# Altium schematic symbol library kmilo17pet-NSC_LDO.SchLib: 2675 symbols (part 56 of 65)
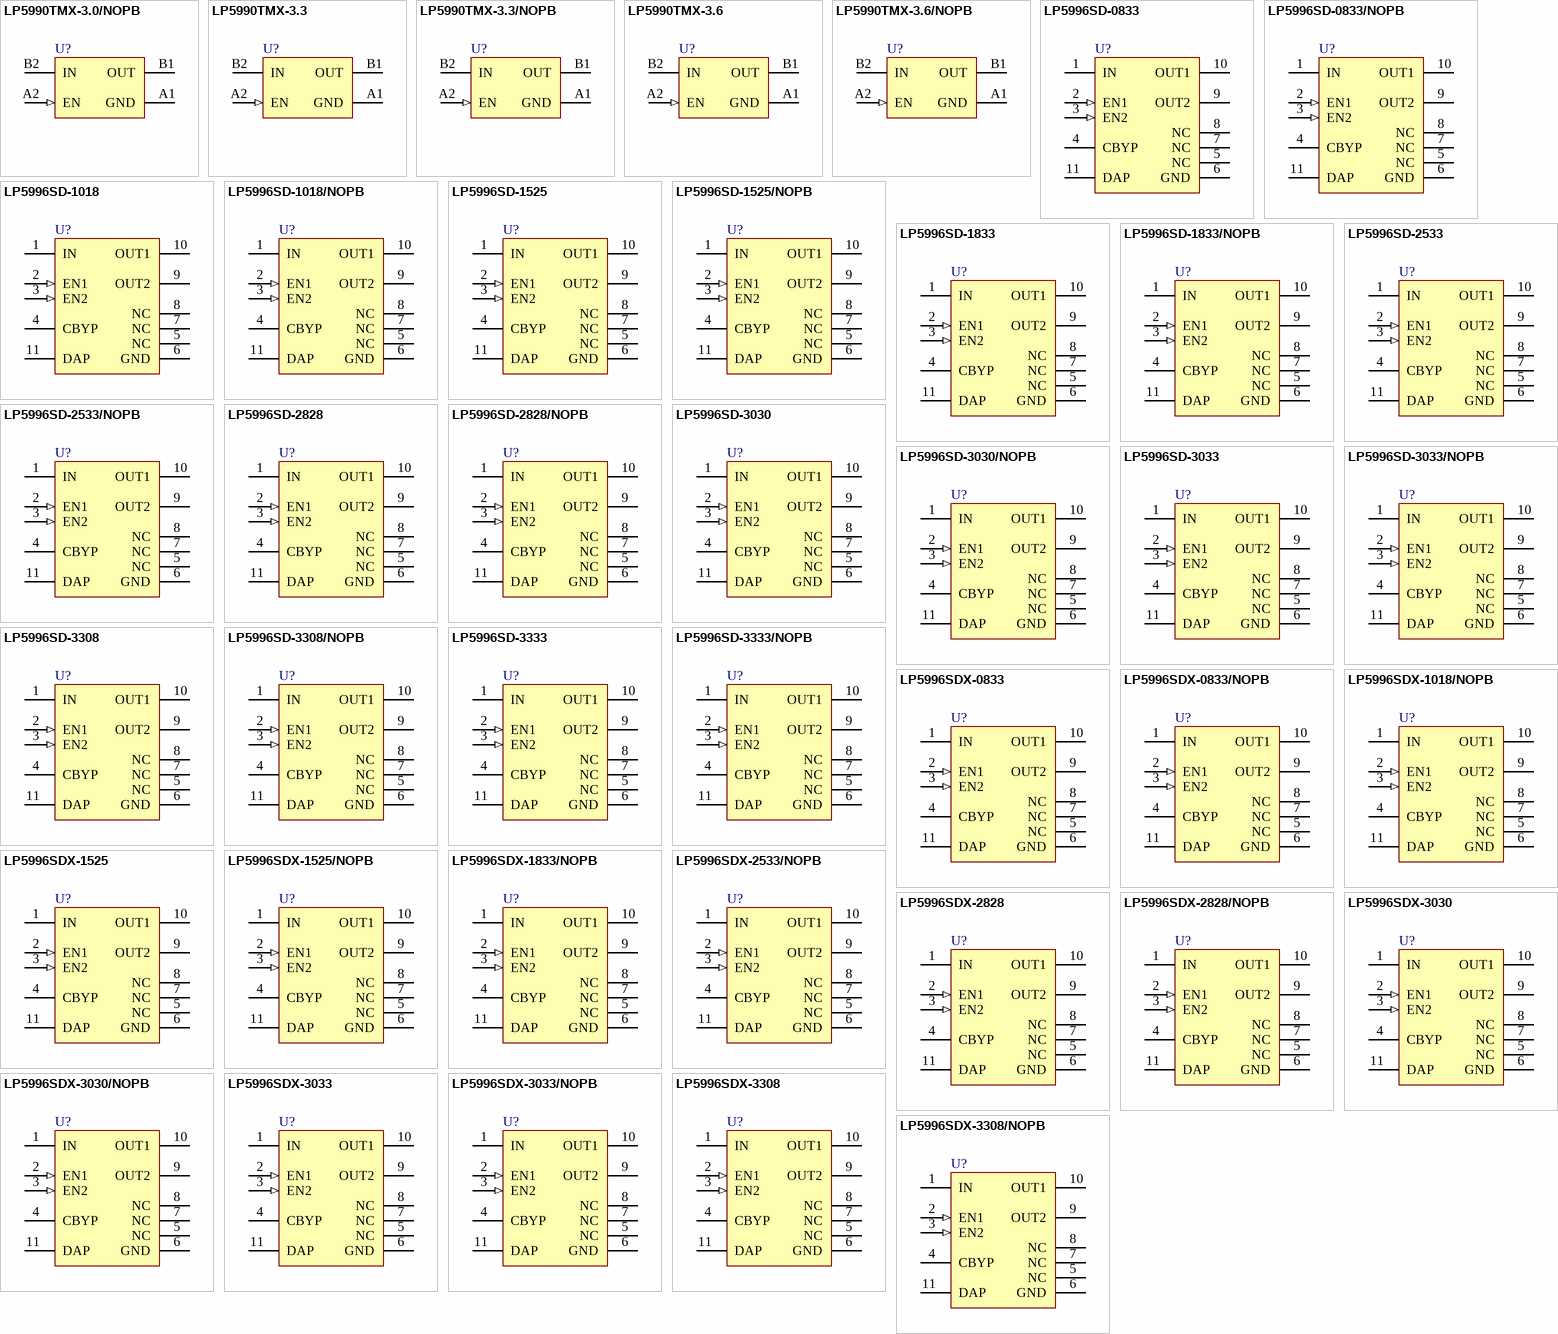
[diagram p122: symbols LP5990TMX-3.0/NOPB to LP5996SDX-3308/NOPB]

## LP5996SDX-1833/NOPB
designator U?
Dual Linear Regulator with 300mA and 150mA Outputs, 10-pin LLP, Pb-Free; PartNumber: LP5996SDX-1833/NOPB; Manufacturer: National Semiconductor; PackageTopMarking: ZXYTT*L225B; PowerWise: N; CompType: LDO IC; High-Reliability: Y; DatasheetVersion: Jan-2008; PackageVersion: revA, Oct-2003; PackageReference: SDA10A; PackageDescription: LLP, Plastic, Dual, 3 x 3 x 0.8mm Body, 10 Lead, 0.5mm Pitch, No Pullback; RoHS: Y; PinCount: 10; ComponentLink1Description: Manufacturer URL; ComponentLink1URL: http://www.national.com/; ComponentLink2Description: LP5996 Datasheet; ComponentLink2URL: http://www.national.com/ds/LP/LP5996.pdf; ComponentLink3Description: LP5996 Web Page; ComponentLink3URL: http://www.national.com/pf/LP/LP5996.html; ComponentLink4Description: SDA10A Package Page; ComponentLink4URL: http://www.national.com/packaging/folders/sda10a.html
footprint SDA10A (SON, 10-Leads, Body 3x3 mm, Pitch 0.5mm, NSC Recommended)
pins: 1 IN (power), 2 EN1 (in), 3 EN2 (in), 4 CBYP, 5 NC, 6 GND (power), 7 NC, 8 NC, 9 OUT2 (power), 10 OUT1 (power), 11 DAP (power)

## LP5996SDX-2533/NOPB
designator U?
Dual Linear Regulator with 300mA and 150mA Outputs, 10-pin LLP, Pb-Free; PartNumber: LP5996SDX-2533/NOPB; Manufacturer: National Semiconductor; PackageTopMarking: ZXYTT*L226B; PowerWise: N; CompType: LDO IC; High-Reliability: Y; DatasheetVersion: Jan-2008; PackageVersion: revA, Oct-2003; PackageReference: SDA10A; PackageDescription: LLP, Plastic, Dual, 3 x 3 x 0.8mm Body, 10 Lead, 0.5mm Pitch, No Pullback; RoHS: Y; PinCount: 10; ComponentLink1Description: Manufacturer URL; ComponentLink1URL: http://www.national.com/; ComponentLink2Description: LP5996 Datasheet; ComponentLink2URL: http://www.national.com/ds/LP/LP5996.pdf; ComponentLink3Description: LP5996 Web Page; ComponentLink3URL: http://www.national.com/pf/LP/LP5996.html; ComponentLink4Description: SDA10A Package Page; ComponentLink4URL: http://www.national.com/packaging/folders/sda10a.html
footprint SDA10A (SON, 10-Leads, Body 3x3 mm, Pitch 0.5mm, NSC Recommended)
pins: 1 IN (power), 2 EN1 (in), 3 EN2 (in), 4 CBYP, 5 NC, 6 GND (power), 7 NC, 8 NC, 9 OUT2 (power), 10 OUT1 (power), 11 DAP (power)

## LP5996SDX-2828
designator U?
Dual Linear Regulator with 300mA and 150mA Outputs, 10-pin LLP; PartNumber: LP5996SDX-2828; Manufacturer: National Semiconductor; PackageTopMarking: ZXYTT*L180B; PowerWise: N; CompType: LDO IC; High-Reliability: Y; DatasheetVersion: Jan-2008; PackageVersion: revA, Oct-2003; PackageReference: SDA10A; PackageDescription: LLP, Plastic, Dual, 3 x 3 x 0.8mm Body, 10 Lead, 0.5mm Pitch, No Pullback; RoHS: N; PinCount: 10; ComponentLink1Description: Manufacturer URL; ComponentLink1URL: http://www.national.com/; ComponentLink2Description: LP5996 Datasheet; ComponentLink2URL: http://www.national.com/ds/LP/LP5996.pdf; ComponentLink3Description: LP5996 Web Page; ComponentLink3URL: http://www.national.com/pf/LP/LP5996.html; ComponentLink4Description: SDA10A Package Page; ComponentLink4URL: http://www.national.com/packaging/folders/sda10a.html
footprint SDA10A (SON, 10-Leads, Body 3x3 mm, Pitch 0.5mm, NSC Recommended)
pins: 1 IN (power), 2 EN1 (in), 3 EN2 (in), 4 CBYP, 5 NC, 6 GND (power), 7 NC, 8 NC, 9 OUT2 (power), 10 OUT1 (power), 11 DAP (power)

## LP5996SDX-2828/NOPB
designator U?
Dual Linear Regulator with 300mA and 150mA Outputs, 10-pin LLP, Pb-Free; PartNumber: LP5996SDX-2828/NOPB; Manufacturer: National Semiconductor; PackageTopMarking: ZXYTT*L180B; PowerWise: N; CompType: LDO IC; High-Reliability: Y; DatasheetVersion: Jan-2008; PackageVersion: revA, Oct-2003; PackageReference: SDA10A; PackageDescription: LLP, Plastic, Dual, 3 x 3 x 0.8mm Body, 10 Lead, 0.5mm Pitch, No Pullback; RoHS: Y; PinCount: 10; ComponentLink1Description: Manufacturer URL; ComponentLink1URL: http://www.national.com/; ComponentLink2Description: LP5996 Datasheet; ComponentLink2URL: http://www.national.com/ds/LP/LP5996.pdf; ComponentLink3Description: LP5996 Web Page; ComponentLink3URL: http://www.national.com/pf/LP/LP5996.html; ComponentLink4Description: SDA10A Package Page; ComponentLink4URL: http://www.national.com/packaging/folders/sda10a.html
footprint SDA10A (SON, 10-Leads, Body 3x3 mm, Pitch 0.5mm, NSC Recommended)
pins: 1 IN (power), 2 EN1 (in), 3 EN2 (in), 4 CBYP, 5 NC, 6 GND (power), 7 NC, 8 NC, 9 OUT2 (power), 10 OUT1 (power), 11 DAP (power)

## LP5996SDX-3030
designator U?
Dual Linear Regulator with 300mA and 150mA Outputs, 10-pin LLP; PartNumber: LP5996SDX-3030; Manufacturer: National Semiconductor; PackageTopMarking: ZXYTT*L181B; PowerWise: N; CompType: LDO IC; High-Reliability: Y; DatasheetVersion: Jan-2008; PackageVersion: revA, Oct-2003; PackageReference: SDA10A; PackageDescription: LLP, Plastic, Dual, 3 x 3 x 0.8mm Body, 10 Lead, 0.5mm Pitch, No Pullback; RoHS: N; PinCount: 10; ComponentLink1Description: Manufacturer URL; ComponentLink1URL: http://www.national.com/; ComponentLink2Description: LP5996 Datasheet; ComponentLink2URL: http://www.national.com/ds/LP/LP5996.pdf; ComponentLink3Description: LP5996 Web Page; ComponentLink3URL: http://www.national.com/pf/LP/LP5996.html; ComponentLink4Description: SDA10A Package Page; ComponentLink4URL: http://www.national.com/packaging/folders/sda10a.html
footprint SDA10A (SON, 10-Leads, Body 3x3 mm, Pitch 0.5mm, NSC Recommended)
pins: 1 IN (power), 2 EN1 (in), 3 EN2 (in), 4 CBYP, 5 NC, 6 GND (power), 7 NC, 8 NC, 9 OUT2 (power), 10 OUT1 (power), 11 DAP (power)

## LP5996SDX-3030/NOPB
designator U?
Dual Linear Regulator with 300mA and 150mA Outputs, 10-pin LLP, Pb-Free; PartNumber: LP5996SDX-3030/NOPB; Manufacturer: National Semiconductor; PackageTopMarking: ZXYTT*L181B; PowerWise: N; CompType: LDO IC; High-Reliability: Y; DatasheetVersion: Jan-2008; PackageVersion: revA, Oct-2003; PackageReference: SDA10A; PackageDescription: LLP, Plastic, Dual, 3 x 3 x 0.8mm Body, 10 Lead, 0.5mm Pitch, No Pullback; RoHS: Y; PinCount: 10; ComponentLink1Description: Manufacturer URL; ComponentLink1URL: http://www.national.com/; ComponentLink2Description: LP5996 Datasheet; ComponentLink2URL: http://www.national.com/ds/LP/LP5996.pdf; ComponentLink3Description: LP5996 Web Page; ComponentLink3URL: http://www.national.com/pf/LP/LP5996.html; ComponentLink4Description: SDA10A Package Page; ComponentLink4URL: http://www.national.com/packaging/folders/sda10a.html
footprint SDA10A (SON, 10-Leads, Body 3x3 mm, Pitch 0.5mm, NSC Recommended)
pins: 1 IN (power), 2 EN1 (in), 3 EN2 (in), 4 CBYP, 5 NC, 6 GND (power), 7 NC, 8 NC, 9 OUT2 (power), 10 OUT1 (power), 11 DAP (power)

## LP5996SDX-3033
designator U?
Dual Linear Regulator with 300mA and 150mA Outputs, 10-pin LLP; PartNumber: LP5996SDX-3033; Manufacturer: National Semiconductor; PackageTopMarking: ZXYTT*L179B; PowerWise: N; CompType: LDO IC; High-Reliability: Y; DatasheetVersion: Jan-2008; PackageVersion: revA, Oct-2003; PackageReference: SDA10A; PackageDescription: LLP, Plastic, Dual, 3 x 3 x 0.8mm Body, 10 Lead, 0.5mm Pitch, No Pullback; RoHS: N; PinCount: 10; ComponentLink1Description: Manufacturer URL; ComponentLink1URL: http://www.national.com/; ComponentLink2Description: LP5996 Datasheet; ComponentLink2URL: http://www.national.com/ds/LP/LP5996.pdf; ComponentLink3Description: LP5996 Web Page; ComponentLink3URL: http://www.national.com/pf/LP/LP5996.html; ComponentLink4Description: SDA10A Package Page; ComponentLink4URL: http://www.national.com/packaging/folders/sda10a.html
footprint SDA10A (SON, 10-Leads, Body 3x3 mm, Pitch 0.5mm, NSC Recommended)
pins: 1 IN (power), 2 EN1 (in), 3 EN2 (in), 4 CBYP, 5 NC, 6 GND (power), 7 NC, 8 NC, 9 OUT2 (power), 10 OUT1 (power), 11 DAP (power)

## LP5996SDX-3033/NOPB
designator U?
Dual Linear Regulator with 300mA and 150mA Outputs, 10-pin LLP, Pb-Free; PartNumber: LP5996SDX-3033/NOPB; Manufacturer: National Semiconductor; PackageTopMarking: ZXYTT*L179B; PowerWise: N; CompType: LDO IC; High-Reliability: Y; DatasheetVersion: Jan-2008; PackageVersion: revA, Oct-2003; PackageReference: SDA10A; PackageDescription: LLP, Plastic, Dual, 3 x 3 x 0.8mm Body, 10 Lead, 0.5mm Pitch, No Pullback; RoHS: Y; PinCount: 10; ComponentLink1Description: Manufacturer URL; ComponentLink1URL: http://www.national.com/; ComponentLink2Description: LP5996 Datasheet; ComponentLink2URL: http://www.national.com/ds/LP/LP5996.pdf; ComponentLink3Description: LP5996 Web Page; ComponentLink3URL: http://www.national.com/pf/LP/LP5996.html; ComponentLink4Description: SDA10A Package Page; ComponentLink4URL: http://www.national.com/packaging/folders/sda10a.html
footprint SDA10A (SON, 10-Leads, Body 3x3 mm, Pitch 0.5mm, NSC Recommended)
pins: 1 IN (power), 2 EN1 (in), 3 EN2 (in), 4 CBYP, 5 NC, 6 GND (power), 7 NC, 8 NC, 9 OUT2 (power), 10 OUT1 (power), 11 DAP (power)

## LP5996SDX-3308
designator U?
Dual Linear Regulator with 300mA and 150mA Outputs, 10-pin LLP; PartNumber: LP5996SDX-3308; Manufacturer: National Semiconductor; PackageTopMarking: ZXYTT*L205B; PowerWise: N; CompType: LDO IC; High-Reliability: Y; DatasheetVersion: Jan-2008; PackageVersion: revA, Oct-2003; PackageReference: SDA10A; PackageDescription: LLP, Plastic, Dual, 3 x 3 x 0.8mm Body, 10 Lead, 0.5mm Pitch, No Pullback; RoHS: N; PinCount: 10; ComponentLink1Description: Manufacturer URL; ComponentLink1URL: http://www.national.com/; ComponentLink2Description: LP5996 Datasheet; ComponentLink2URL: http://www.national.com/ds/LP/LP5996.pdf; ComponentLink3Description: LP5996 Web Page; ComponentLink3URL: http://www.national.com/pf/LP/LP5996.html; ComponentLink4Description: SDA10A Package Page; ComponentLink4URL: http://www.national.com/packaging/folders/sda10a.html
footprint SDA10A (SON, 10-Leads, Body 3x3 mm, Pitch 0.5mm, NSC Recommended)
pins: 1 IN (power), 2 EN1 (in), 3 EN2 (in), 4 CBYP, 5 NC, 6 GND (power), 7 NC, 8 NC, 9 OUT2 (power), 10 OUT1 (power), 11 DAP (power)

## LP5996SDX-3308/NOPB
designator U?
Dual Linear Regulator with 300mA and 150mA Outputs, 10-pin LLP, Pb-Free; PartNumber: LP5996SDX-3308/NOPB; Manufacturer: National Semiconductor; PackageTopMarking: ZXYTT*L205B; PowerWise: N; CompType: LDO IC; High-Reliability: Y; DatasheetVersion: Jan-2008; PackageVersion: revA, Oct-2003; PackageReference: SDA10A; PackageDescription: LLP, Plastic, Dual, 3 x 3 x 0.8mm Body, 10 Lead, 0.5mm Pitch, No Pullback; RoHS: Y; PinCount: 10; ComponentLink1Description: Manufacturer URL; ComponentLink1URL: http://www.national.com/; ComponentLink2Description: LP5996 Datasheet; ComponentLink2URL: http://www.national.com/ds/LP/LP5996.pdf; ComponentLink3Description: LP5996 Web Page; ComponentLink3URL: http://www.national.com/pf/LP/LP5996.html; ComponentLink4Description: SDA10A Package Page; ComponentLink4URL: http://www.national.com/packaging/folders/sda10a.html
footprint SDA10A (SON, 10-Leads, Body 3x3 mm, Pitch 0.5mm, NSC Recommended)
pins: 1 IN (power), 2 EN1 (in), 3 EN2 (in), 4 CBYP, 5 NC, 6 GND (power), 7 NC, 8 NC, 9 OUT2 (power), 10 OUT1 (power), 11 DAP (power)

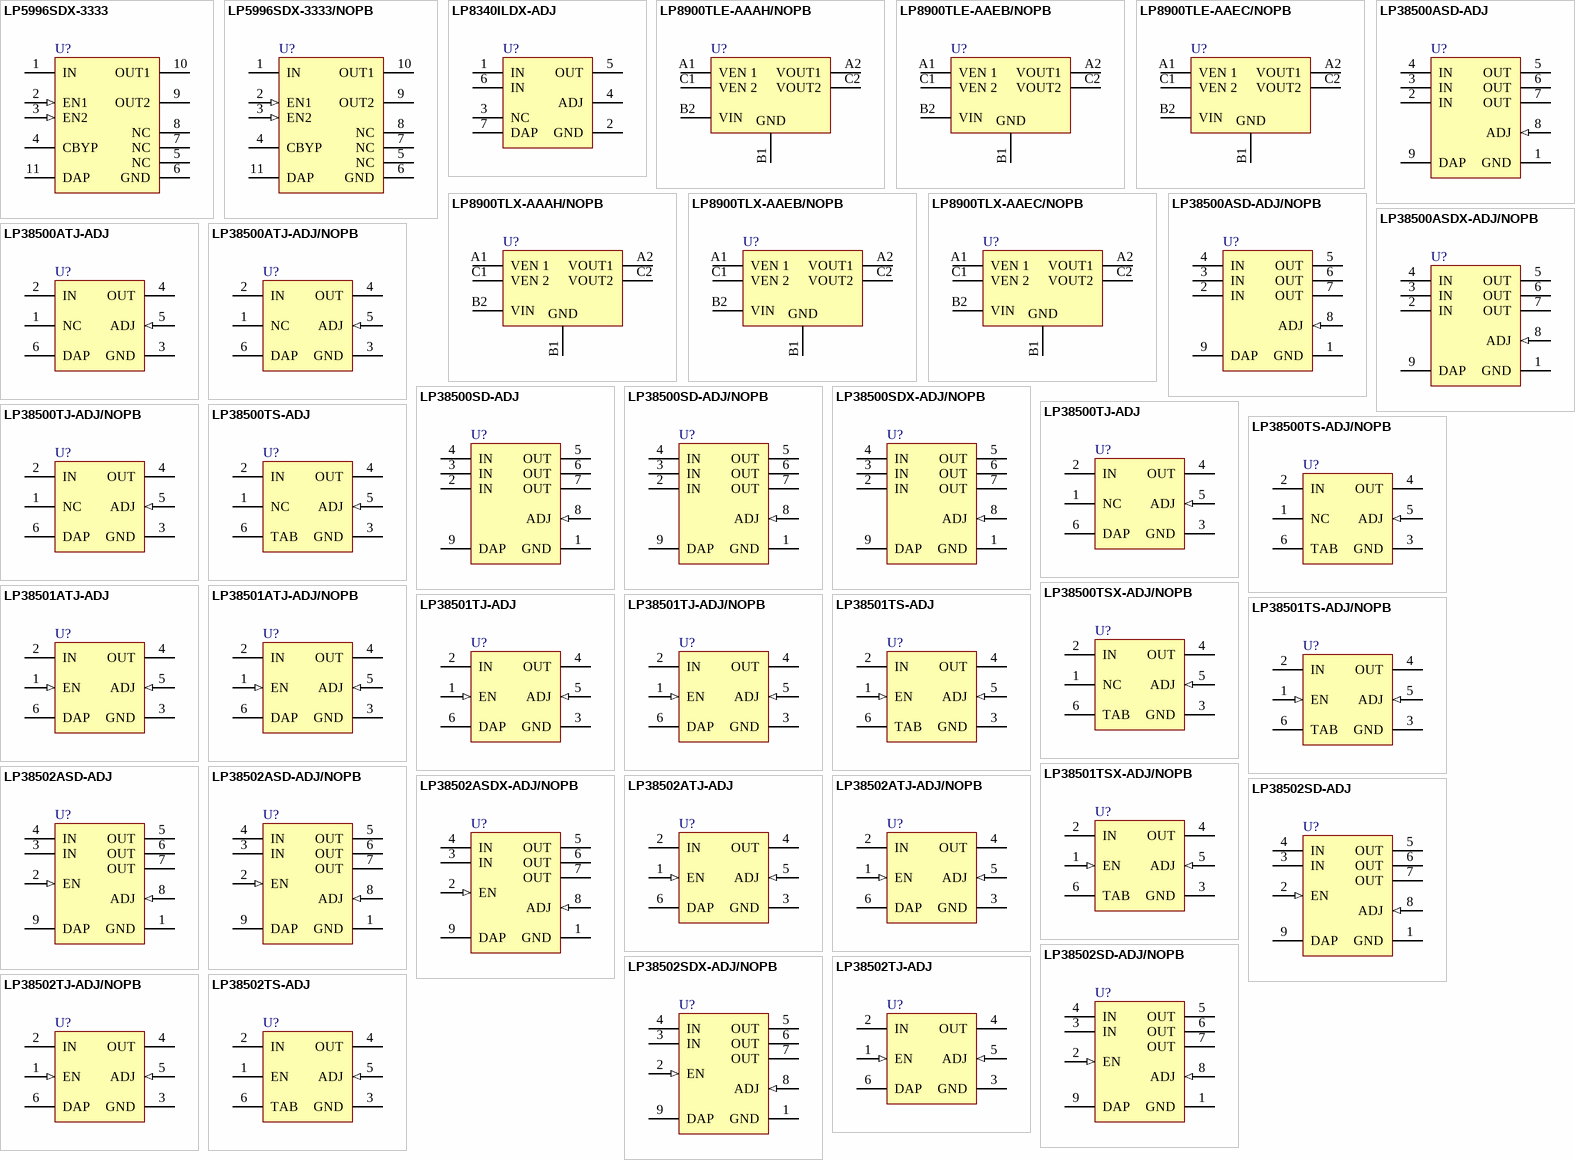
[diagram p58: symbols LP5996SDX-3333 to LP38502TS-ADJ]

## LP5996SDX-3333
designator U?
Dual Linear Regulator with 300mA and 150mA Outputs, 10-pin LLP; PartNumber: LP5996SDX-3333; Manufacturer: National Semiconductor; PackageTopMarking: ZXYTT*L182B; PowerWise: N; CompType: LDO IC; High-Reliability: Y; DatasheetVersion: Jan-2008; PackageVersion: revA, Oct-2003; PackageReference: SDA10A; PackageDescription: LLP, Plastic, Dual, 3 x 3 x 0.8mm Body, 10 Lead, 0.5mm Pitch, No Pullback; RoHS: N; PinCount: 10; ComponentLink1Description: Manufacturer URL; ComponentLink1URL: http://www.national.com/; ComponentLink2Description: LP5996 Datasheet; ComponentLink2URL: http://www.national.com/ds/LP/LP5996.pdf; ComponentLink3Description: LP5996 Web Page; ComponentLink3URL: http://www.national.com/pf/LP/LP5996.html; ComponentLink4Description: SDA10A Package Page; ComponentLink4URL: http://www.national.com/packaging/folders/sda10a.html
footprint SDA10A (SON, 10-Leads, Body 3x3 mm, Pitch 0.5mm, NSC Recommended)
pins: 1 IN (power), 2 EN1 (in), 3 EN2 (in), 4 CBYP, 5 NC, 6 GND (power), 7 NC, 8 NC, 9 OUT2 (power), 10 OUT1 (power), 11 DAP (power)

## LP5996SDX-3333/NOPB
designator U?
Dual Linear Regulator with 300mA and 150mA Outputs, 10-pin LLP, Pb-Free; PartNumber: LP5996SDX-3333/NOPB; Manufacturer: National Semiconductor; PackageTopMarking: ZXYTT*L182B; PowerWise: N; CompType: LDO IC; High-Reliability: Y; DatasheetVersion: Jan-2008; PackageVersion: revA, Oct-2003; PackageReference: SDA10A; PackageDescription: LLP, Plastic, Dual, 3 x 3 x 0.8mm Body, 10 Lead, 0.5mm Pitch, No Pullback; RoHS: Y; PinCount: 10; ComponentLink1Description: Manufacturer URL; ComponentLink1URL: http://www.national.com/; ComponentLink2Description: LP5996 Datasheet; ComponentLink2URL: http://www.national.com/ds/LP/LP5996.pdf; ComponentLink3Description: LP5996 Web Page; ComponentLink3URL: http://www.national.com/pf/LP/LP5996.html; ComponentLink4Description: SDA10A Package Page; ComponentLink4URL: http://www.national.com/packaging/folders/sda10a.html
footprint SDA10A (SON, 10-Leads, Body 3x3 mm, Pitch 0.5mm, NSC Recommended)
pins: 1 IN (power), 2 EN1 (in), 3 EN2 (in), 4 CBYP, 5 NC, 6 GND (power), 7 NC, 8 NC, 9 OUT2 (power), 10 OUT1 (power), 11 DAP (power)

## LP8340ILDX-ADJ
designator U?
Low Dropout, Low IQ, 1.0A CMOS Linear Regulator, 6-pin LLP; PartNumber: LP8340ILDX-ADJ; Manufacturer: National Semiconductor; PackageTopMarking: ZXYTT*L078B; PowerWise: N; CompType: LDO IC; High-Reliability: Y; DatasheetVersion: May-2005; PackageVersion: revA, Jul-2001; PackageReference: LDE06A; PackageDescription: LLP, Plastic, Dual, 2.92 x 3.29 x 0.75mm Body, 6 Lead, 0.95mm Pitch, SOT23 Land; RoHS: N; PinCount: 6; ComponentLink1Description: Manufacturer URL; ComponentLink1URL: http://www.national.com/; ComponentLink2Description: LP8340 Datasheet; ComponentLink2URL: http://www.national.com/ds/LP/LP8340.pdf; ComponentLink3Description: LP8340 Web Page; ComponentLink3URL: http://www.national.com/pf/LP/LP8340.html; ComponentLink4Description: LDE06A Package Page; ComponentLink4URL: http://www.national.com/packaging/folders/lde06a.html
footprint LDE06A (PSON, 6-Leads, Body 2.92x3.29 mm, Pitch 0.95mm, NSC Recommended)
pins: 1 IN (power), 2 GND (power), 3 NC, 4 ADJ, 5 OUT (power), 6 IN (power), 7 DAP (power)

## LP8900TLE-AAAH/NOPB
designator U?
Ultra Low Noise, Dual 200mA Linear Regulator for RF/Analog Circuits, 6-pin Micro SMD, Pb-Free; PartNumber: LP8900TLE-AAAH/NOPB; Manufacturer: National Semiconductor; PackageTopMarking: XV*I 3; PowerWise: N; CompType: LDO IC; High-Reliability: Y; DatasheetVersion: Feb-2009; PackageVersion: revC, Jan-2004; PackageReference: TLA06CZA; PackageDescription: Thin Micro SMD, 6 Bump (Large), 0.5mm Pitch; RoHS: Y; PinCount: 6; Code_JEDEC: MO-211-DB; ComponentLink1Description: Manufacturer URL; ComponentLink1URL: http://www.national.com/; ComponentLink2Description: LP8900 Datasheet; ComponentLink2URL: http://www.national.com/ds/LP/LP8900.pdf; ComponentLink3Description: LP8900 Web Page; ComponentLink3URL: http://www.national.com/pf/LP/LP8900.html; ComponentLink4Description: TLA06CZA Package Page; ComponentLink4URL: http://www.national.com/packaging/folders/tla06cza.html
footprint TLA06CZA (Micro SMD, 6-Leads, Body 1.46x1.06mm, Pitch 0.5mm, NSC Recommended)
pins: A1 VEN 1 (power), A2 VOUT1 (power), B1 GND (power), B2 VIN (power), C1 VEN 2 (power), C2 VOUT2 (power)

## LP8900TLE-AAEB/NOPB
designator U?
Ultra Low Noise, Dual 200mA Linear Regulator for RF/Analog Circuits, 6-pin Micro SMD, Pb-Free; PartNumber: LP8900TLE-AAEB/NOPB; Manufacturer: National Semiconductor; PackageTopMarking: XV*I A; PowerWise: N; CompType: LDO IC; High-Reliability: Y; DatasheetVersion: Feb-2009; PackageVersion: revC, Jan-2004; PackageReference: TLA06CZA; PackageDescription: Thin Micro SMD, 6 Bump (Large), 0.5mm Pitch; RoHS: Y; PinCount: 6; Code_JEDEC: MO-211-DB; ComponentLink1Description: Manufacturer URL; ComponentLink1URL: http://www.national.com/; ComponentLink2Description: LP8900 Datasheet; ComponentLink2URL: http://www.national.com/ds/LP/LP8900.pdf; ComponentLink3Description: LP8900 Web Page; ComponentLink3URL: http://www.national.com/pf/LP/LP8900.html; ComponentLink4Description: TLA06CZA Package Page; ComponentLink4URL: http://www.national.com/packaging/folders/tla06cza.html
footprint TLA06CZA (Micro SMD, 6-Leads, Body 1.46x1.06mm, Pitch 0.5mm, NSC Recommended)
pins: A1 VEN 1 (power), A2 VOUT1 (power), B1 GND (power), B2 VIN (power), C1 VEN 2 (power), C2 VOUT2 (power)

## LP8900TLE-AAEC/NOPB
designator U?
Ultra Low Noise, Dual 200mA Linear Regulator for RF/Analog Circuits, 6-pin Micro SMD, Pb-Free; PartNumber: LP8900TLE-AAEC/NOPB; Manufacturer: National Semiconductor; PackageTopMarking: XV*I D; PowerWise: N; CompType: LDO IC; High-Reliability: Y; DatasheetVersion: Feb-2009; PackageVersion: revC, Jan-2004; PackageReference: TLA06CZA; PackageDescription: Thin Micro SMD, 6 Bump (Large), 0.5mm Pitch; RoHS: Y; PinCount: 6; Code_JEDEC: MO-211-DB; ComponentLink1Description: Manufacturer URL; ComponentLink1URL: http://www.national.com/; ComponentLink2Description: LP8900 Datasheet; ComponentLink2URL: http://www.national.com/ds/LP/LP8900.pdf; ComponentLink3Description: LP8900 Web Page; ComponentLink3URL: http://www.national.com/pf/LP/LP8900.html; ComponentLink4Description: TLA06CZA Package Page; ComponentLink4URL: http://www.national.com/packaging/folders/tla06cza.html
footprint TLA06CZA (Micro SMD, 6-Leads, Body 1.46x1.06mm, Pitch 0.5mm, NSC Recommended)
pins: A1 VEN 1 (power), A2 VOUT1 (power), B1 GND (power), B2 VIN (power), C1 VEN 2 (power), C2 VOUT2 (power)

## LP8900TLX-AAAH/NOPB
designator U?
Ultra Low Noise, Dual 200mA Linear Regulator for RF/Analog Circuits, 6-pin Micro SMD, Pb-Free; PartNumber: LP8900TLX-AAAH/NOPB; Manufacturer: National Semiconductor; PackageTopMarking: XV*I 3; PowerWise: N; CompType: LDO IC; High-Reliability: Y; DatasheetVersion: Feb-2009; PackageVersion: revC, Jan-2004; PackageReference: TLA06CZA; PackageDescription: Thin Micro SMD, 6 Bump (Large), 0.5mm Pitch; RoHS: Y; PinCount: 6; Code_JEDEC: MO-211-DB; ComponentLink1Description: Manufacturer URL; ComponentLink1URL: http://www.national.com/; ComponentLink2Description: LP8900 Datasheet; ComponentLink2URL: http://www.national.com/ds/LP/LP8900.pdf; ComponentLink3Description: LP8900 Web Page; ComponentLink3URL: http://www.national.com/pf/LP/LP8900.html; ComponentLink4Description: TLA06CZA Package Page; ComponentLink4URL: http://www.national.com/packaging/folders/tla06cza.html
footprint TLA06CZA (Micro SMD, 6-Leads, Body 1.46x1.06mm, Pitch 0.5mm, NSC Recommended)
pins: A1 VEN 1 (power), A2 VOUT1 (power), B1 GND (power), B2 VIN (power), C1 VEN 2 (power), C2 VOUT2 (power)

## LP8900TLX-AAEB/NOPB
designator U?
Ultra Low Noise, Dual 200mA Linear Regulator for RF/Analog Circuits, 6-pin Micro SMD, Pb-Free; PartNumber: LP8900TLX-AAEB/NOPB; Manufacturer: National Semiconductor; PackageTopMarking: XV*I A; PowerWise: N; CompType: LDO IC; High-Reliability: Y; DatasheetVersion: Feb-2009; PackageVersion: revC, Jan-2004; PackageReference: TLA06CZA; PackageDescription: Thin Micro SMD, 6 Bump (Large), 0.5mm Pitch; RoHS: Y; PinCount: 6; Code_JEDEC: MO-211-DB; ComponentLink1Description: Manufacturer URL; ComponentLink1URL: http://www.national.com/; ComponentLink2Description: LP8900 Datasheet; ComponentLink2URL: http://www.national.com/ds/LP/LP8900.pdf; ComponentLink3Description: LP8900 Web Page; ComponentLink3URL: http://www.national.com/pf/LP/LP8900.html; ComponentLink4Description: TLA06CZA Package Page; ComponentLink4URL: http://www.national.com/packaging/folders/tla06cza.html
footprint TLA06CZA (Micro SMD, 6-Leads, Body 1.46x1.06mm, Pitch 0.5mm, NSC Recommended)
pins: A1 VEN 1 (power), A2 VOUT1 (power), B1 GND (power), B2 VIN (power), C1 VEN 2 (power), C2 VOUT2 (power)

## LP8900TLX-AAEC/NOPB
designator U?
Ultra Low Noise, Dual 200mA Linear Regulator for RF/Analog Circuits, 6-pin Micro SMD, Pb-Free; PartNumber: LP8900TLX-AAEC/NOPB; Manufacturer: National Semiconductor; PackageTopMarking: XV*I D; PowerWise: N; CompType: LDO IC; High-Reliability: Y; DatasheetVersion: Feb-2009; PackageVersion: revC, Jan-2004; PackageReference: TLA06CZA; PackageDescription: Thin Micro SMD, 6 Bump (Large), 0.5mm Pitch; RoHS: Y; PinCount: 6; Code_JEDEC: MO-211-DB; ComponentLink1Description: Manufacturer URL; ComponentLink1URL: http://www.national.com/; ComponentLink2Description: LP8900 Datasheet; ComponentLink2URL: http://www.national.com/ds/LP/LP8900.pdf; ComponentLink3Description: LP8900 Web Page; ComponentLink3URL: http://www.national.com/pf/LP/LP8900.html; ComponentLink4Description: TLA06CZA Package Page; ComponentLink4URL: http://www.national.com/packaging/folders/tla06cza.html
footprint TLA06CZA (Micro SMD, 6-Leads, Body 1.46x1.06mm, Pitch 0.5mm, NSC Recommended)
pins: A1 VEN 1 (power), A2 VOUT1 (power), B1 GND (power), B2 VIN (power), C1 VEN 2 (power), C2 VOUT2 (power)

## LP38500ASD-ADJ
designator U?
1.5A FlexCap Low Dropout Linear Regulator for 2.7V to 5.5V Inputs, 8-pin LLP; PartNumber: LP38500ASD-ADJ; Manufacturer: National Semiconductor; PackageTopMarking: XYTT*LKUA; PowerWise: N; CompType: LDO IC; High-Reliability: Y; DatasheetVersion: May-2008; PackageVersion: revA, Jan-2004; PackageReference: SDA08C; PackageDescription: LLP, Plastic, Dual, 2.5 x 3.0 x 0.8mm Body, 8 Lead, 0.5mm Pitch, No Pullback; RoHS: Y; PinCount: 8; ComponentLink1Description: Manufacturer URL; ComponentLink1URL: http://www.national.com/; ComponentLink2Description: LP38500-ADJ Datasheet; ComponentLink2URL: http://www.national.com/ds/LP/LP38500-ADJ.pdf; ComponentLink3Description: LP38500-ADJ Web Page; ComponentLink3URL: http://www.national.com/pf/LP/LP38500-ADJ.html; ComponentLink4Description: SDA08C Package Page; ComponentLink4URL: http://www.national.com/packaging/folders/sda08c.html
footprint SDA08C (SON, 8-Leads, Body 2.5x3mm, Pitch 0.5mm, NSC Recommended)
pins: 1 GND (power), 2 IN (power), 3 IN (power), 4 IN (power), 5 OUT (power), 6 OUT (power), 7 OUT (power), 8 ADJ (in), 9 DAP (power)

## LP38500ASD-ADJ/NOPB
designator U?
1.5A FlexCap Low Dropout Linear Regulator for 2.7V to 5.5V Inputs, 8-pin LLP, Pb-Free; PartNumber: LP38500ASD-ADJ/NOPB; Manufacturer: National Semiconductor; PackageTopMarking: XYTT*LKUA; PowerWise: N; CompType: LDO IC; High-Reliability: Y; DatasheetVersion: May-2008; PackageVersion: revA, Jan-2004; PackageReference: SDA08C; PackageDescription: LLP, Plastic, Dual, 2.5 x 3.0 x 0.8mm Body, 8 Lead, 0.5mm Pitch, No Pullback; RoHS: Y; PinCount: 8; ComponentLink1Description: Manufacturer URL; ComponentLink1URL: http://www.national.com/; ComponentLink2Description: LP38500-ADJ Datasheet; ComponentLink2URL: http://www.national.com/ds/LP/LP38500-ADJ.pdf; ComponentLink3Description: LP38500-ADJ Web Page; ComponentLink3URL: http://www.national.com/pf/LP/LP38500-ADJ.html; ComponentLink4Description: SDA08C Package Page; ComponentLink4URL: http://www.national.com/packaging/folders/sda08c.html
footprint SDA08C (SON, 8-Leads, Body 2.5x3mm, Pitch 0.5mm, NSC Recommended)
pins: 1 GND (power), 2 IN (power), 3 IN (power), 4 IN (power), 5 OUT (power), 6 OUT (power), 7 OUT (power), 8 ADJ (in), 9 DAP (power)

## LP38500ASDX-ADJ/NOPB
designator U?
1.5A FlexCap Low Dropout Linear Regulator for 2.7V to 5.5V Inputs, 8-pin LLP, Pb-Free; PartNumber: LP38500ASDX-ADJ/NOPB; Manufacturer: National Semiconductor; PackageTopMarking: XYTT*LKUA; PowerWise: N; CompType: LDO IC; High-Reliability: Y; DatasheetVersion: May-2008; PackageVersion: revA, Jan-2004; PackageReference: SDA08C; PackageDescription: LLP, Plastic, Dual, 2.5 x 3.0 x 0.8mm Body, 8 Lead, 0.5mm Pitch, No Pullback; RoHS: Y; PinCount: 8; ComponentLink1Description: Manufacturer URL; ComponentLink1URL: http://www.national.com/; ComponentLink2Description: LP38500-ADJ Datasheet; ComponentLink2URL: http://www.national.com/ds/LP/LP38500-ADJ.pdf; ComponentLink3Description: LP38500-ADJ Web Page; ComponentLink3URL: http://www.national.com/pf/LP/LP38500-ADJ.html; ComponentLink4Description: SDA08C Package Page; ComponentLink4URL: http://www.national.com/packaging/folders/sda08c.html
footprint SDA08C (SON, 8-Leads, Body 2.5x3mm, Pitch 0.5mm, NSC Recommended)
pins: 1 GND (power), 2 IN (power), 3 IN (power), 4 IN (power), 5 OUT (power), 6 OUT (power), 7 OUT (power), 8 ADJ (in), 9 DAP (power)

## LP38500ATJ-ADJ
designator U?
1.5A FlexCap Low Dropout Linear Regulator for 2.7V to 5.5V Inputs, 6-pin TO-263 Thin; PartNumber: LP38500ATJ-ADJ; Manufacturer: National Semiconductor; PackageTopMarking: NSUZXYTTE#*LP38500*ATJ-ADJ; PowerWise: N; CompType: LDO IC; High-Reliability: Y; DatasheetVersion: May-2008; PackageVersion: revE, Jan-2008; PackageReference: TJ5A; PackageDescription: Thin TO-263, Molded, 9.85 x 10.16 x 2mm Body, 5 Lead, 1.7mm Pitch, Surface Mount; RoHS: Y; PinCount: 5; ComponentLink1Description: Manufacturer URL; ComponentLink1URL: http://www.national.com/; ComponentLink2Description: LP38500-ADJ Datasheet; ComponentLink2URL: http://www.national.com/ds/LP/LP38500-ADJ.pdf; ComponentLink3Description: LP38500-ADJ Web Page; ComponentLink3URL: http://www.national.com/pf/LP/LP38500-ADJ.html; ComponentLink4Description: TJ5A Package Page; ComponentLink4URL: http://www.national.com/packaging/folders/tj5a.html
footprint TJ5A_N (D2-PAK, 6-Leads, Body 9.9x10.2mm, Pitch 1.7mm, Lead Span 14mm, IPC Medium Density)
footprint TJ5A_L (D2-PAK, 6-Leads, Body 9.9x10.2mm, Pitch 1.7mm, Lead Span 14mm, IPC High Density)
footprint TJ5A_M (D2-PAK, 6-Leads, Body 9.9x10.2mm, Pitch 1.7mm, Lead Span 14mm, IPC Low Density)
pins: 1 NC, 2 IN (power), 3 GND (power), 4 OUT (power), 5 ADJ (in), 6 DAP (power)

## LP38500ATJ-ADJ/NOPB
designator U?
1.5A FlexCap Low Dropout Linear Regulator for 2.7V to 5.5V Inputs, 5-pin TO-263 Thin, Pb-Free; PartNumber: LP38500ATJ-ADJ/NOPB; Manufacturer: National Semiconductor; PackageTopMarking: NSUZXYTTE#*LP38500*ATJ-ADJ; PowerWise: N; CompType: LDO IC; High-Reliability: Y; DatasheetVersion: May-2008; PackageVersion: revE, Jan-2008; PackageReference: TJ5A; PackageDescription: Thin TO-263, Molded, 9.85 x 10.16 x 2mm Body, 5 Lead, 1.7mm Pitch, Surface Mount; RoHS: Y; PinCount: 5; ComponentLink1Description: Manufacturer URL; ComponentLink1URL: http://www.national.com/; ComponentLink2Description: LP38500-ADJ Datasheet; ComponentLink2URL: http://www.national.com/ds/LP/LP38500-ADJ.pdf; ComponentLink3Description: LP38500-ADJ Web Page; ComponentLink3URL: http://www.national.com/pf/LP/LP38500-ADJ.html; ComponentLink4Description: TJ5A Package Page; ComponentLink4URL: http://www.national.com/packaging/folders/tj5a.html
footprint TJ5A_N (D2-PAK, 6-Leads, Body 9.9x10.2mm, Pitch 1.7mm, Lead Span 14mm, IPC Medium Density)
footprint TJ5A_L (D2-PAK, 6-Leads, Body 9.9x10.2mm, Pitch 1.7mm, Lead Span 14mm, IPC High Density)
footprint TJ5A_M (D2-PAK, 6-Leads, Body 9.9x10.2mm, Pitch 1.7mm, Lead Span 14mm, IPC Low Density)
pins: 1 NC, 2 IN (power), 3 GND (power), 4 OUT (power), 5 ADJ (in), 6 DAP (power)

## LP38500SD-ADJ
designator U?
1.5A FlexCap Low Dropout Linear Regulator for 2.7V to 5.5V Inputs, 8-pin LLP; PartNumber: LP38500SD-ADJ; Manufacturer: National Semiconductor; PackageTopMarking: XYTT*LKUB; PowerWise: N; CompType: LDO IC; High-Reliability: Y; DatasheetVersion: May-2008; PackageVersion: revA, Jan-2004; PackageReference: SDA08C; PackageDescription: LLP, Plastic, Dual, 2.5 x 3.0 x 0.8mm Body, 8 Lead, 0.5mm Pitch, No Pullback; RoHS: Y; PinCount: 8; ComponentLink1Description: Manufacturer URL; ComponentLink1URL: http://www.national.com/; ComponentLink2Description: LP38500-ADJ Datasheet; ComponentLink2URL: http://www.national.com/ds/LP/LP38500-ADJ.pdf; ComponentLink3Description: LP38500-ADJ Web Page; ComponentLink3URL: http://www.national.com/pf/LP/LP38500-ADJ.html; ComponentLink4Description: SDA08C Package Page; ComponentLink4URL: http://www.national.com/packaging/folders/sda08c.html
footprint SDA08C (SON, 8-Leads, Body 2.5x3mm, Pitch 0.5mm, NSC Recommended)
pins: 1 GND (power), 2 IN (power), 3 IN (power), 4 IN (power), 5 OUT (power), 6 OUT (power), 7 OUT (power), 8 ADJ (in), 9 DAP (power)

## LP38500SD-ADJ/NOPB
designator U?
1.5A FlexCap Low Dropout Linear Regulator for 2.7V to 5.5V Inputs, 8-pin LLP, Pb-Free; PartNumber: LP38500SD-ADJ/NOPB; Manufacturer: National Semiconductor; PackageTopMarking: XYTT*LKUB; PowerWise: N; CompType: LDO IC; High-Reliability: Y; DatasheetVersion: May-2008; PackageVersion: revA, Jan-2004; PackageReference: SDA08C; PackageDescription: LLP, Plastic, Dual, 2.5 x 3.0 x 0.8mm Body, 8 Lead, 0.5mm Pitch, No Pullback; RoHS: Y; PinCount: 8; ComponentLink1Description: Manufacturer URL; ComponentLink1URL: http://www.national.com/; ComponentLink2Description: LP38500-ADJ Datasheet; ComponentLink2URL: http://www.national.com/ds/LP/LP38500-ADJ.pdf; ComponentLink3Description: LP38500-ADJ Web Page; ComponentLink3URL: http://www.national.com/pf/LP/LP38500-ADJ.html; ComponentLink4Description: SDA08C Package Page; ComponentLink4URL: http://www.national.com/packaging/folders/sda08c.html
footprint SDA08C (SON, 8-Leads, Body 2.5x3mm, Pitch 0.5mm, NSC Recommended)
pins: 1 GND (power), 2 IN (power), 3 IN (power), 4 IN (power), 5 OUT (power), 6 OUT (power), 7 OUT (power), 8 ADJ (in), 9 DAP (power)

## LP38500SDX-ADJ/NOPB
designator U?
1.5A FlexCap Low Dropout Linear Regulator for 2.7V to 5.5V Inputs, 8-pin LLP, Pb-Free; PartNumber: LP38500SDX-ADJ/NOPB; Manufacturer: National Semiconductor; PackageTopMarking: XYTT*LKUB; PowerWise: N; CompType: LDO IC; High-Reliability: Y; DatasheetVersion: May-2008; PackageVersion: revA, Jan-2004; PackageReference: SDA08C; PackageDescription: LLP, Plastic, Dual, 2.5 x 3.0 x 0.8mm Body, 8 Lead, 0.5mm Pitch, No Pullback; RoHS: Y; PinCount: 8; ComponentLink1Description: Manufacturer URL; ComponentLink1URL: http://www.national.com/; ComponentLink2Description: LP38500-ADJ Datasheet; ComponentLink2URL: http://www.national.com/ds/LP/LP38500-ADJ.pdf; ComponentLink3Description: LP38500-ADJ Web Page; ComponentLink3URL: http://www.national.com/pf/LP/LP38500-ADJ.html; ComponentLink4Description: SDA08C Package Page; ComponentLink4URL: http://www.national.com/packaging/folders/sda08c.html
footprint SDA08C (SON, 8-Leads, Body 2.5x3mm, Pitch 0.5mm, NSC Recommended)
pins: 1 GND (power), 2 IN (power), 3 IN (power), 4 IN (power), 5 OUT (power), 6 OUT (power), 7 OUT (power), 8 ADJ (in), 9 DAP (power)

## LP38500TJ-ADJ
designator U?
1.5A FlexCap Low Dropout Linear Regulator for 2.7V to 5.5V Inputs, 6-pin TO-263 Thin; PartNumber: LP38500TJ-ADJ; Manufacturer: National Semiconductor; PackageTopMarking: NSUZXYTTE#*LP38500*TJ-ADJ; PowerWise: N; CompType: LDO IC; High-Reliability: Y; DatasheetVersion: May-2008; PackageVersion: revE, Jan-2008; PackageReference: TJ5A; PackageDescription: Thin TO-263, Molded, 9.85 x 10.16 x 2mm Body, 5 Lead, 1.7mm Pitch, Surface Mount; RoHS: Y; PinCount: 5; ComponentLink1Description: Manufacturer URL; ComponentLink1URL: http://www.national.com/; ComponentLink2Description: LP38500-ADJ Datasheet; ComponentLink2URL: http://www.national.com/ds/LP/LP38500-ADJ.pdf; ComponentLink3Description: LP38500-ADJ Web Page; ComponentLink3URL: http://www.national.com/pf/LP/LP38500-ADJ.html; ComponentLink4Description: TJ5A Package Page; ComponentLink4URL: http://www.national.com/packaging/folders/tj5a.html
footprint TJ5A_N (D2-PAK, 6-Leads, Body 9.9x10.2mm, Pitch 1.7mm, Lead Span 14mm, IPC Medium Density)
footprint TJ5A_L (D2-PAK, 6-Leads, Body 9.9x10.2mm, Pitch 1.7mm, Lead Span 14mm, IPC High Density)
footprint TJ5A_M (D2-PAK, 6-Leads, Body 9.9x10.2mm, Pitch 1.7mm, Lead Span 14mm, IPC Low Density)
pins: 1 NC, 2 IN (power), 3 GND (power), 4 OUT (power), 5 ADJ (in), 6 DAP (power)

## LP38500TJ-ADJ/NOPB
designator U?
1.5A FlexCap Low Dropout Linear Regulator for 2.7V to 5.5V Inputs, 5-pin TO-263 Thin, Pb-Free; PartNumber: LP38500TJ-ADJ/NOPB; Manufacturer: National Semiconductor; PackageTopMarking: NSUZXYTTE#*LP38500*TJ-ADJ; PowerWise: N; CompType: LDO IC; High-Reliability: Y; DatasheetVersion: May-2008; PackageVersion: revE, Jan-2008; PackageReference: TJ5A; PackageDescription: Thin TO-263, Molded, 9.85 x 10.16 x 2mm Body, 5 Lead, 1.7mm Pitch, Surface Mount; RoHS: Y; PinCount: 5; ComponentLink1Description: Manufacturer URL; ComponentLink1URL: http://www.national.com/; ComponentLink2Description: LP38500-ADJ Datasheet; ComponentLink2URL: http://www.national.com/ds/LP/LP38500-ADJ.pdf; ComponentLink3Description: LP38500-ADJ Web Page; ComponentLink3URL: http://www.national.com/pf/LP/LP38500-ADJ.html; ComponentLink4Description: TJ5A Package Page; ComponentLink4URL: http://www.national.com/packaging/folders/tj5a.html
footprint TJ5A_N (D2-PAK, 6-Leads, Body 9.9x10.2mm, Pitch 1.7mm, Lead Span 14mm, IPC Medium Density)
footprint TJ5A_L (D2-PAK, 6-Leads, Body 9.9x10.2mm, Pitch 1.7mm, Lead Span 14mm, IPC High Density)
footprint TJ5A_M (D2-PAK, 6-Leads, Body 9.9x10.2mm, Pitch 1.7mm, Lead Span 14mm, IPC Low Density)
pins: 1 NC, 2 IN (power), 3 GND (power), 4 OUT (power), 5 ADJ (in), 6 DAP (power)

## LP38500TS-ADJ
designator U?
1.5A FlexCap Low Dropout Linear Regulator for 2.7V to 5.5V Inputs, 5-pin TO-263; PartNumber: LP38500TS-ADJ; Manufacturer: National Semiconductor; PackageTopMarking: NSUZXYTTE#*LP38500*TS-ADJ; PowerWise: N; CompType: LDO IC; High-Reliability: Y; DatasheetVersion: May-2008; PackageVersion: revD, Apr-2005; PackageReference: TS5B; PackageDescription: TO-263, Molded, .400 x .390 x .180in, 5 Lead, .067in Pitch, Surface Mount; RoHS: Y; PinCount: 5; Code_JEDEC: MO-169-AB; ComponentLink1Description: Manufacturer URL; ComponentLink1URL: http://www.national.com/; ComponentLink2Description: LP38500-ADJ Datasheet; ComponentLink2URL: http://www.national.com/ds/LP/LP38500-ADJ.pdf; ComponentLink3Description: LP38500-ADJ Web Page; ComponentLink3URL: http://www.national.com/pf/LP/LP38500-ADJ.html; ComponentLink4Description: TS5B Package Page; ComponentLink4URL: http://www.national.com/packaging/folders/ts5b.html
footprint TS5B_N (D2-PAK, 6-Leads, Body 8.6x10.2mm, Pitch 1.7mm, Lead Span 14.1mm, IPC Medium Density)
footprint TS5B_L (D2-PAK, 6-Leads, Body 8.6x10.2mm, Pitch 1.7mm, Lead Span 14.1mm, IPC High Density)
footprint TS5B_M (D2-PAK, 6-Leads, Body 8.6x10.2mm, Pitch 1.7mm, Lead Span 14.1mm, IPC Low Density)
pins: 1 NC, 2 IN (power), 3 GND (power), 4 OUT (power), 5 ADJ (in), 6 TAB (power)

## LP38500TS-ADJ/NOPB
designator U?
1.5A FlexCap Low Dropout Linear Regulator for 2.7V to 5.5V Inputs, 5-pin TO-263, Pb-Free; PartNumber: LP38500TS-ADJ/NOPB; Manufacturer: National Semiconductor; PackageTopMarking: NSUZXYTTE#*LP38500*TS-ADJ; PowerWise: N; CompType: LDO IC; High-Reliability: Y; DatasheetVersion: May-2008; PackageVersion: revD, Apr-2005; PackageReference: TS5B; PackageDescription: TO-263, Molded, .400 x .390 x .180in, 5 Lead, .067in Pitch, Surface Mount; RoHS: Y; PinCount: 5; Code_JEDEC: MO-169-AB; ComponentLink1Description: Manufacturer URL; ComponentLink1URL: http://www.national.com/; ComponentLink2Description: LP38500-ADJ Datasheet; ComponentLink2URL: http://www.national.com/ds/LP/LP38500-ADJ.pdf; ComponentLink3Description: LP38500-ADJ Web Page; ComponentLink3URL: http://www.national.com/pf/LP/LP38500-ADJ.html; ComponentLink4Description: TS5B Package Page; ComponentLink4URL: http://www.national.com/packaging/folders/ts5b.html
footprint TS5B_N (D2-PAK, 6-Leads, Body 8.6x10.2mm, Pitch 1.7mm, Lead Span 14.1mm, IPC Medium Density)
footprint TS5B_L (D2-PAK, 6-Leads, Body 8.6x10.2mm, Pitch 1.7mm, Lead Span 14.1mm, IPC High Density)
footprint TS5B_M (D2-PAK, 6-Leads, Body 8.6x10.2mm, Pitch 1.7mm, Lead Span 14.1mm, IPC Low Density)
pins: 1 NC, 2 IN (power), 3 GND (power), 4 OUT (power), 5 ADJ (in), 6 TAB (power)

## LP38500TSX-ADJ/NOPB
designator U?
1.5A FlexCap Low Dropout Linear Regulator for 2.7V to 5.5V Inputs, 5-pin TO-263, Pb-Free; PartNumber: LP38500TSX-ADJ/NOPB; Manufacturer: National Semiconductor; PackageTopMarking: NSUZXYTTE#*LP38500*TS-ADJ; PowerWise: N; CompType: LDO IC; High-Reliability: Y; DatasheetVersion: May-2008; PackageVersion: revD, Apr-2005; PackageReference: TS5B; PackageDescription: TO-263, Molded, .400 x .390 x .180in, 5 Lead, .067in Pitch, Surface Mount; RoHS: Y; PinCount: 5; Code_JEDEC: MO-169-AB; ComponentLink1Description: Manufacturer URL; ComponentLink1URL: http://www.national.com/; ComponentLink2Description: LP38500-ADJ Datasheet; ComponentLink2URL: http://www.national.com/ds/LP/LP38500-ADJ.pdf; ComponentLink3Description: LP38500-ADJ Web Page; ComponentLink3URL: http://www.national.com/pf/LP/LP38500-ADJ.html; ComponentLink4Description: TS5B Package Page; ComponentLink4URL: http://www.national.com/packaging/folders/ts5b.html
footprint TS5B_N (D2-PAK, 6-Leads, Body 8.6x10.2mm, Pitch 1.7mm, Lead Span 14.1mm, IPC Medium Density)
footprint TS5B_L (D2-PAK, 6-Leads, Body 8.6x10.2mm, Pitch 1.7mm, Lead Span 14.1mm, IPC High Density)
footprint TS5B_M (D2-PAK, 6-Leads, Body 8.6x10.2mm, Pitch 1.7mm, Lead Span 14.1mm, IPC Low Density)
pins: 1 NC, 2 IN (power), 3 GND (power), 4 OUT (power), 5 ADJ (in), 6 TAB (power)

## LP38501ATJ-ADJ
designator U?
3A FlexCap Low Dropout Linear Regulator for 2.7V to 5.5V Inputs, 6-pin TO-263 Thin; PartNumber: LP38501ATJ-ADJ; Manufacturer: National Semiconductor; PackageTopMarking: NSUZXYTTE#*LP38501A*TJ-ADJ; PowerWise: N; CompType: LDO IC; High-Reliability: Y; DatasheetVersion: May-2008; PackageVersion: revE, Jan-2008; PackageReference: TJ5A; PackageDescription: Thin TO-263, Molded, 9.85 x 10.16 x 2mm Body, 5 Lead, 1.7mm Pitch, Surface Mount; RoHS: Y; PinCount: 5; ComponentLink1Description: Manufacturer URL; ComponentLink1URL: http://www.national.com/; ComponentLink2Description: LP38501-ADJ Datasheet; ComponentLink2URL: http://www.national.com/ds/LP/LP38501-ADJ.pdf; ComponentLink3Description: LP38501-ADJ Web Page; ComponentLink3URL: http://www.national.com/pf/LP/LP38501-ADJ.html; ComponentLink4Description: TJ5A Package Page; ComponentLink4URL: http://www.national.com/packaging/folders/tj5a.html
footprint TJ5A_N (D2-PAK, 6-Leads, Body 9.9x10.2mm, Pitch 1.7mm, Lead Span 14mm, IPC Medium Density)
footprint TJ5A_L (D2-PAK, 6-Leads, Body 9.9x10.2mm, Pitch 1.7mm, Lead Span 14mm, IPC High Density)
footprint TJ5A_M (D2-PAK, 6-Leads, Body 9.9x10.2mm, Pitch 1.7mm, Lead Span 14mm, IPC Low Density)
pins: 1 EN (in), 2 IN (power), 3 GND (power), 4 OUT (power), 5 ADJ (in), 6 DAP (power)

## LP38501ATJ-ADJ/NOPB
designator U?
3A FlexCap Low Dropout Linear Regulator for 2.7V to 5.5V Inputs, 5-pin TO-263 Thin, Pb-Free; PartNumber: LP38501ATJ-ADJ/NOPB; Manufacturer: National Semiconductor; PackageTopMarking: NSUZXYTTE#*LP38501A*TJ-ADJ; PowerWise: N; CompType: LDO IC; High-Reliability: Y; DatasheetVersion: May-2008; PackageVersion: revE, Jan-2008; PackageReference: TJ5A; PackageDescription: Thin TO-263, Molded, 9.85 x 10.16 x 2mm Body, 5 Lead, 1.7mm Pitch, Surface Mount; RoHS: Y; PinCount: 5; ComponentLink1Description: Manufacturer URL; ComponentLink1URL: http://www.national.com/; ComponentLink2Description: LP38501-ADJ Datasheet; ComponentLink2URL: http://www.national.com/ds/LP/LP38501-ADJ.pdf; ComponentLink3Description: LP38501-ADJ Web Page; ComponentLink3URL: http://www.national.com/pf/LP/LP38501-ADJ.html; ComponentLink4Description: TJ5A Package Page; ComponentLink4URL: http://www.national.com/packaging/folders/tj5a.html
footprint TJ5A_N (D2-PAK, 6-Leads, Body 9.9x10.2mm, Pitch 1.7mm, Lead Span 14mm, IPC Medium Density)
footprint TJ5A_L (D2-PAK, 6-Leads, Body 9.9x10.2mm, Pitch 1.7mm, Lead Span 14mm, IPC High Density)
footprint TJ5A_M (D2-PAK, 6-Leads, Body 9.9x10.2mm, Pitch 1.7mm, Lead Span 14mm, IPC Low Density)
pins: 1 EN (in), 2 IN (power), 3 GND (power), 4 OUT (power), 5 ADJ (in), 6 DAP (power)

## LP38501TJ-ADJ
designator U?
3A FlexCap Low Dropout Linear Regulator for 2.7V to 5.5V Inputs, 6-pin TO-263 Thin; PartNumber: LP38501TJ-ADJ; Manufacturer: National Semiconductor; PackageTopMarking: NSUZXYTTE#*LP38501*TJ-ADJ; PowerWise: N; CompType: LDO IC; High-Reliability: Y; DatasheetVersion: May-2008; PackageVersion: revE, Jan-2008; PackageReference: TJ5A; PackageDescription: Thin TO-263, Molded, 9.85 x 10.16 x 2mm Body, 5 Lead, 1.7mm Pitch, Surface Mount; RoHS: Y; PinCount: 5; ComponentLink1Description: Manufacturer URL; ComponentLink1URL: http://www.national.com/; ComponentLink2Description: LP38501-ADJ Datasheet; ComponentLink2URL: http://www.national.com/ds/LP/LP38501-ADJ.pdf; ComponentLink3Description: LP38501-ADJ Web Page; ComponentLink3URL: http://www.national.com/pf/LP/LP38501-ADJ.html; ComponentLink4Description: TJ5A Package Page; ComponentLink4URL: http://www.national.com/packaging/folders/tj5a.html
footprint TJ5A_N (D2-PAK, 6-Leads, Body 9.9x10.2mm, Pitch 1.7mm, Lead Span 14mm, IPC Medium Density)
footprint TJ5A_L (D2-PAK, 6-Leads, Body 9.9x10.2mm, Pitch 1.7mm, Lead Span 14mm, IPC High Density)
footprint TJ5A_M (D2-PAK, 6-Leads, Body 9.9x10.2mm, Pitch 1.7mm, Lead Span 14mm, IPC Low Density)
pins: 1 EN (in), 2 IN (power), 3 GND (power), 4 OUT (power), 5 ADJ (in), 6 DAP (power)

## LP38501TJ-ADJ/NOPB
designator U?
3A FlexCap Low Dropout Linear Regulator for 2.7V to 5.5V Inputs, 5-pin TO-263 Thin, Pb-Free; PartNumber: LP38501TJ-ADJ/NOPB; Manufacturer: National Semiconductor; PackageTopMarking: NSUZXYTTE#*LP38501*TJ-ADJ; PowerWise: N; CompType: LDO IC; High-Reliability: Y; DatasheetVersion: May-2008; PackageVersion: revE, Jan-2008; PackageReference: TJ5A; PackageDescription: Thin TO-263, Molded, 9.85 x 10.16 x 2mm Body, 5 Lead, 1.7mm Pitch, Surface Mount; RoHS: Y; PinCount: 5; ComponentLink1Description: Manufacturer URL; ComponentLink1URL: http://www.national.com/; ComponentLink2Description: LP38501-ADJ Datasheet; ComponentLink2URL: http://www.national.com/ds/LP/LP38501-ADJ.pdf; ComponentLink3Description: LP38501-ADJ Web Page; ComponentLink3URL: http://www.national.com/pf/LP/LP38501-ADJ.html; ComponentLink4Description: TJ5A Package Page; ComponentLink4URL: http://www.national.com/packaging/folders/tj5a.html
footprint TJ5A_N (D2-PAK, 6-Leads, Body 9.9x10.2mm, Pitch 1.7mm, Lead Span 14mm, IPC Medium Density)
footprint TJ5A_L (D2-PAK, 6-Leads, Body 9.9x10.2mm, Pitch 1.7mm, Lead Span 14mm, IPC High Density)
footprint TJ5A_M (D2-PAK, 6-Leads, Body 9.9x10.2mm, Pitch 1.7mm, Lead Span 14mm, IPC Low Density)
pins: 1 EN (in), 2 IN (power), 3 GND (power), 4 OUT (power), 5 ADJ (in), 6 DAP (power)

## LP38501TS-ADJ
designator U?
3A FlexCap Low Dropout Linear Regulator for 2.7V to 5.5V Inputs, 5-pin TO-263; PartNumber: LP38501TS-ADJ; Manufacturer: National Semiconductor; PackageTopMarking: NSUZXYTTE#*LP38501*TS-ADJ; PowerWise: N; CompType: LDO IC; High-Reliability: Y; DatasheetVersion: May-2008; PackageVersion: revD, Apr-2005; PackageReference: TS5B; PackageDescription: TO-263, Molded, .400 x .390 x .180in, 5 Lead, .067in Pitch, Surface Mount; RoHS: Y; PinCount: 5; Code_JEDEC: MO-169-AB; ComponentLink1Description: Manufacturer URL; ComponentLink1URL: http://www.national.com/; ComponentLink2Description: LP38501-ADJ Datasheet; ComponentLink2URL: http://www.national.com/ds/LP/LP38501-ADJ.pdf; ComponentLink3Description: LP38501-ADJ Web Page; ComponentLink3URL: http://www.national.com/pf/LP/LP38501-ADJ.html; ComponentLink4Description: TS5B Package Page; ComponentLink4URL: http://www.national.com/packaging/folders/ts5b.html
footprint TS5B_N (D2-PAK, 6-Leads, Body 8.6x10.2mm, Pitch 1.7mm, Lead Span 14.1mm, IPC Medium Density)
footprint TS5B_L (D2-PAK, 6-Leads, Body 8.6x10.2mm, Pitch 1.7mm, Lead Span 14.1mm, IPC High Density)
footprint TS5B_M (D2-PAK, 6-Leads, Body 8.6x10.2mm, Pitch 1.7mm, Lead Span 14.1mm, IPC Low Density)
pins: 1 EN (in), 2 IN (power), 3 GND (power), 4 OUT (power), 5 ADJ (in), 6 TAB (power)

## LP38501TS-ADJ/NOPB
designator U?
3A FlexCap Low Dropout Linear Regulator for 2.7V to 5.5V Inputs, 5-pin TO-263, Pb-Free; PartNumber: LP38501TS-ADJ/NOPB; Manufacturer: National Semiconductor; PackageTopMarking: NSUZXYTTE#*LP38501*TS-ADJ; PowerWise: N; CompType: LDO IC; High-Reliability: Y; DatasheetVersion: May-2008; PackageVersion: revD, Apr-2005; PackageReference: TS5B; PackageDescription: TO-263, Molded, .400 x .390 x .180in, 5 Lead, .067in Pitch, Surface Mount; RoHS: Y; PinCount: 5; Code_JEDEC: MO-169-AB; ComponentLink1Description: Manufacturer URL; ComponentLink1URL: http://www.national.com/; ComponentLink2Description: LP38501-ADJ Datasheet; ComponentLink2URL: http://www.national.com/ds/LP/LP38501-ADJ.pdf; ComponentLink3Description: LP38501-ADJ Web Page; ComponentLink3URL: http://www.national.com/pf/LP/LP38501-ADJ.html; ComponentLink4Description: TS5B Package Page; ComponentLink4URL: http://www.national.com/packaging/folders/ts5b.html
footprint TS5B_N (D2-PAK, 6-Leads, Body 8.6x10.2mm, Pitch 1.7mm, Lead Span 14.1mm, IPC Medium Density)
footprint TS5B_L (D2-PAK, 6-Leads, Body 8.6x10.2mm, Pitch 1.7mm, Lead Span 14.1mm, IPC High Density)
footprint TS5B_M (D2-PAK, 6-Leads, Body 8.6x10.2mm, Pitch 1.7mm, Lead Span 14.1mm, IPC Low Density)
pins: 1 EN (in), 2 IN (power), 3 GND (power), 4 OUT (power), 5 ADJ (in), 6 TAB (power)

## LP38501TSX-ADJ/NOPB
designator U?
3A FlexCap Low Dropout Linear Regulator for 2.7V to 5.5V Inputs, 5-pin TO-263, Pb-Free; PartNumber: LP38501TSX-ADJ/NOPB; Manufacturer: National Semiconductor; PackageTopMarking: NSUZXYTTE#*LP38501*TS-ADJ; PowerWise: N; CompType: LDO IC; High-Reliability: Y; DatasheetVersion: May-2008; PackageVersion: revD, Apr-2005; PackageReference: TS5B; PackageDescription: TO-263, Molded, .400 x .390 x .180in, 5 Lead, .067in Pitch, Surface Mount; RoHS: Y; PinCount: 5; Code_JEDEC: MO-169-AB; ComponentLink1Description: Manufacturer URL; ComponentLink1URL: http://www.national.com/; ComponentLink2Description: LP38501-ADJ Datasheet; ComponentLink2URL: http://www.national.com/ds/LP/LP38501-ADJ.pdf; ComponentLink3Description: LP38501-ADJ Web Page; ComponentLink3URL: http://www.national.com/pf/LP/LP38501-ADJ.html; ComponentLink4Description: TS5B Package Page; ComponentLink4URL: http://www.national.com/packaging/folders/ts5b.html
footprint TS5B_N (D2-PAK, 6-Leads, Body 8.6x10.2mm, Pitch 1.7mm, Lead Span 14.1mm, IPC Medium Density)
footprint TS5B_L (D2-PAK, 6-Leads, Body 8.6x10.2mm, Pitch 1.7mm, Lead Span 14.1mm, IPC High Density)
footprint TS5B_M (D2-PAK, 6-Leads, Body 8.6x10.2mm, Pitch 1.7mm, Lead Span 14.1mm, IPC Low Density)
pins: 1 EN (in), 2 IN (power), 3 GND (power), 4 OUT (power), 5 ADJ (in), 6 TAB (power)

## LP38502ASD-ADJ
designator U?
1.5A FlexCap Low Dropout Linear Regulator for 2.7V to 5.5V Inputs, 8-pin LLP; PartNumber: LP38502ASD-ADJ; Manufacturer: National Semiconductor; PackageTopMarking: XYTT*LKVA; PowerWise: N; CompType: LDO IC; High-Reliability: Y; DatasheetVersion: May-2008; PackageVersion: revA, Jan-2004; PackageReference: SDA08C; PackageDescription: LLP, Plastic, Dual, 2.5 x 3.0 x 0.8mm Body, 8 Lead, 0.5mm Pitch, No Pullback; RoHS: Y; PinCount: 8; ComponentLink1Description: Manufacturer URL; ComponentLink1URL: http://www.national.com/; ComponentLink2Description: LP38502-ADJ Datasheet; ComponentLink2URL: http://www.national.com/ds/LP/LP38502-ADJ.pdf; ComponentLink3Description: LP38502-ADJ Web Page; ComponentLink3URL: http://www.national.com/pf/LP/LP38500-ADJ.html; ComponentLink4Description: SDA08C Package Page; ComponentLink4URL: http://www.national.com/packaging/folders/sda08c.html
footprint SDA08C (SON, 8-Leads, Body 2.5x3mm, Pitch 0.5mm, NSC Recommended)
pins: 1 GND (power), 2 EN (in), 3 IN (power), 4 IN (power), 5 OUT (power), 6 OUT (power), 7 OUT (power), 8 ADJ (in), 9 DAP (power)

## LP38502ASD-ADJ/NOPB
designator U?
1.5A FlexCap Low Dropout Linear Regulator for 2.7V to 5.5V Inputs, 8-pin LLP, Pb-Free; PartNumber: LP38502ASD-ADJ/NOPB; Manufacturer: National Semiconductor; PackageTopMarking: XYTT*LKVA; PowerWise: N; CompType: LDO IC; High-Reliability: Y; DatasheetVersion: May-2008; PackageVersion: revA, Jan-2004; PackageReference: SDA08C; PackageDescription: LLP, Plastic, Dual, 2.5 x 3.0 x 0.8mm Body, 8 Lead, 0.5mm Pitch, No Pullback; RoHS: Y; PinCount: 8; ComponentLink1Description: Manufacturer URL; ComponentLink1URL: http://www.national.com/; ComponentLink2Description: LP38502-ADJ Datasheet; ComponentLink2URL: http://www.national.com/ds/LP/LP38502-ADJ.pdf; ComponentLink3Description: LP38502-ADJ Web Page; ComponentLink3URL: http://www.national.com/pf/LP/LP38502-ADJ.html; ComponentLink4Description: SDA08C Package Page; ComponentLink4URL: http://www.national.com/packaging/folders/sda08c.html
footprint SDA08C (SON, 8-Leads, Body 2.5x3mm, Pitch 0.5mm, NSC Recommended)
pins: 1 GND (power), 2 EN (in), 3 IN (power), 4 IN (power), 5 OUT (power), 6 OUT (power), 7 OUT (power), 8 ADJ (in), 9 DAP (power)

## LP38502ASDX-ADJ/NOPB
designator U?
1.5A FlexCap Low Dropout Linear Regulator for 2.7V to 5.5V Inputs, 8-pin LLP, Pb-Free; PartNumber: LP38502ASDX-ADJ/NOPB; Manufacturer: National Semiconductor; PackageTopMarking: XYTT*LKVA; PowerWise: N; CompType: LDO IC; High-Reliability: Y; DatasheetVersion: May-2008; PackageVersion: revA, Jan-2004; PackageReference: SDA08C; PackageDescription: LLP, Plastic, Dual, 2.5 x 3.0 x 0.8mm Body, 8 Lead, 0.5mm Pitch, No Pullback; RoHS: Y; PinCount: 8; ComponentLink1Description: Manufacturer URL; ComponentLink1URL: http://www.national.com/; ComponentLink2Description: LP38502-ADJ Datasheet; ComponentLink2URL: http://www.national.com/ds/LP/LP38502-ADJ.pdf; ComponentLink3Description: LP38502-ADJ Web Page; ComponentLink3URL: http://www.national.com/pf/LP/LP38502-ADJ.html; ComponentLink4Description: SDA08C Package Page; ComponentLink4URL: http://www.national.com/packaging/folders/sda08c.html
footprint SDA08C (SON, 8-Leads, Body 2.5x3mm, Pitch 0.5mm, NSC Recommended)
pins: 1 GND (power), 2 EN (in), 3 IN (power), 4 IN (power), 5 OUT (power), 6 OUT (power), 7 OUT (power), 8 ADJ (in), 9 DAP (power)